# EAGLE library part B6B (library jst)
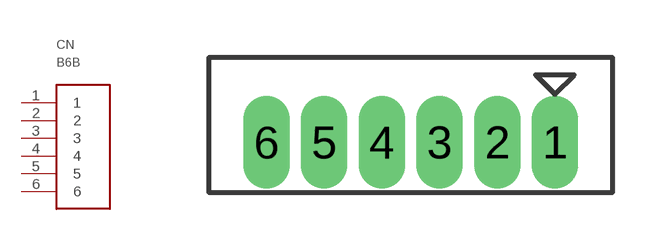
[diagram p1: symbol with the pads of B6B-ZR; footprint B6B-ZR]

Designator prefix CN

## B6B-ZR  [B6B-ZR]
1  1
2  2
3  3
4  4
5  5
6  6

## Footprint B6B-ZR (pad centres in mm)
drill 0.7 long: 1 0,0; 2 -1.5,0; 3 -3,0; 4 -4.5,0; 5 -6,0; 6 -7.5,0